# Altium schematic symbol library rubbish.SchLib: 1 symbol
Pins are listed as number, name and electrical type; pins without a type are passive.

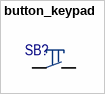
[diagram p0: symbol button_keypad]

## button_keypad
designator SB?  (value not drawn)
pins: 1, 2